# Altium schematic symbol library connectors.SCHLIB: 67 symbols
Pins are listed as number, name and electrical type; pins without a type are passive.

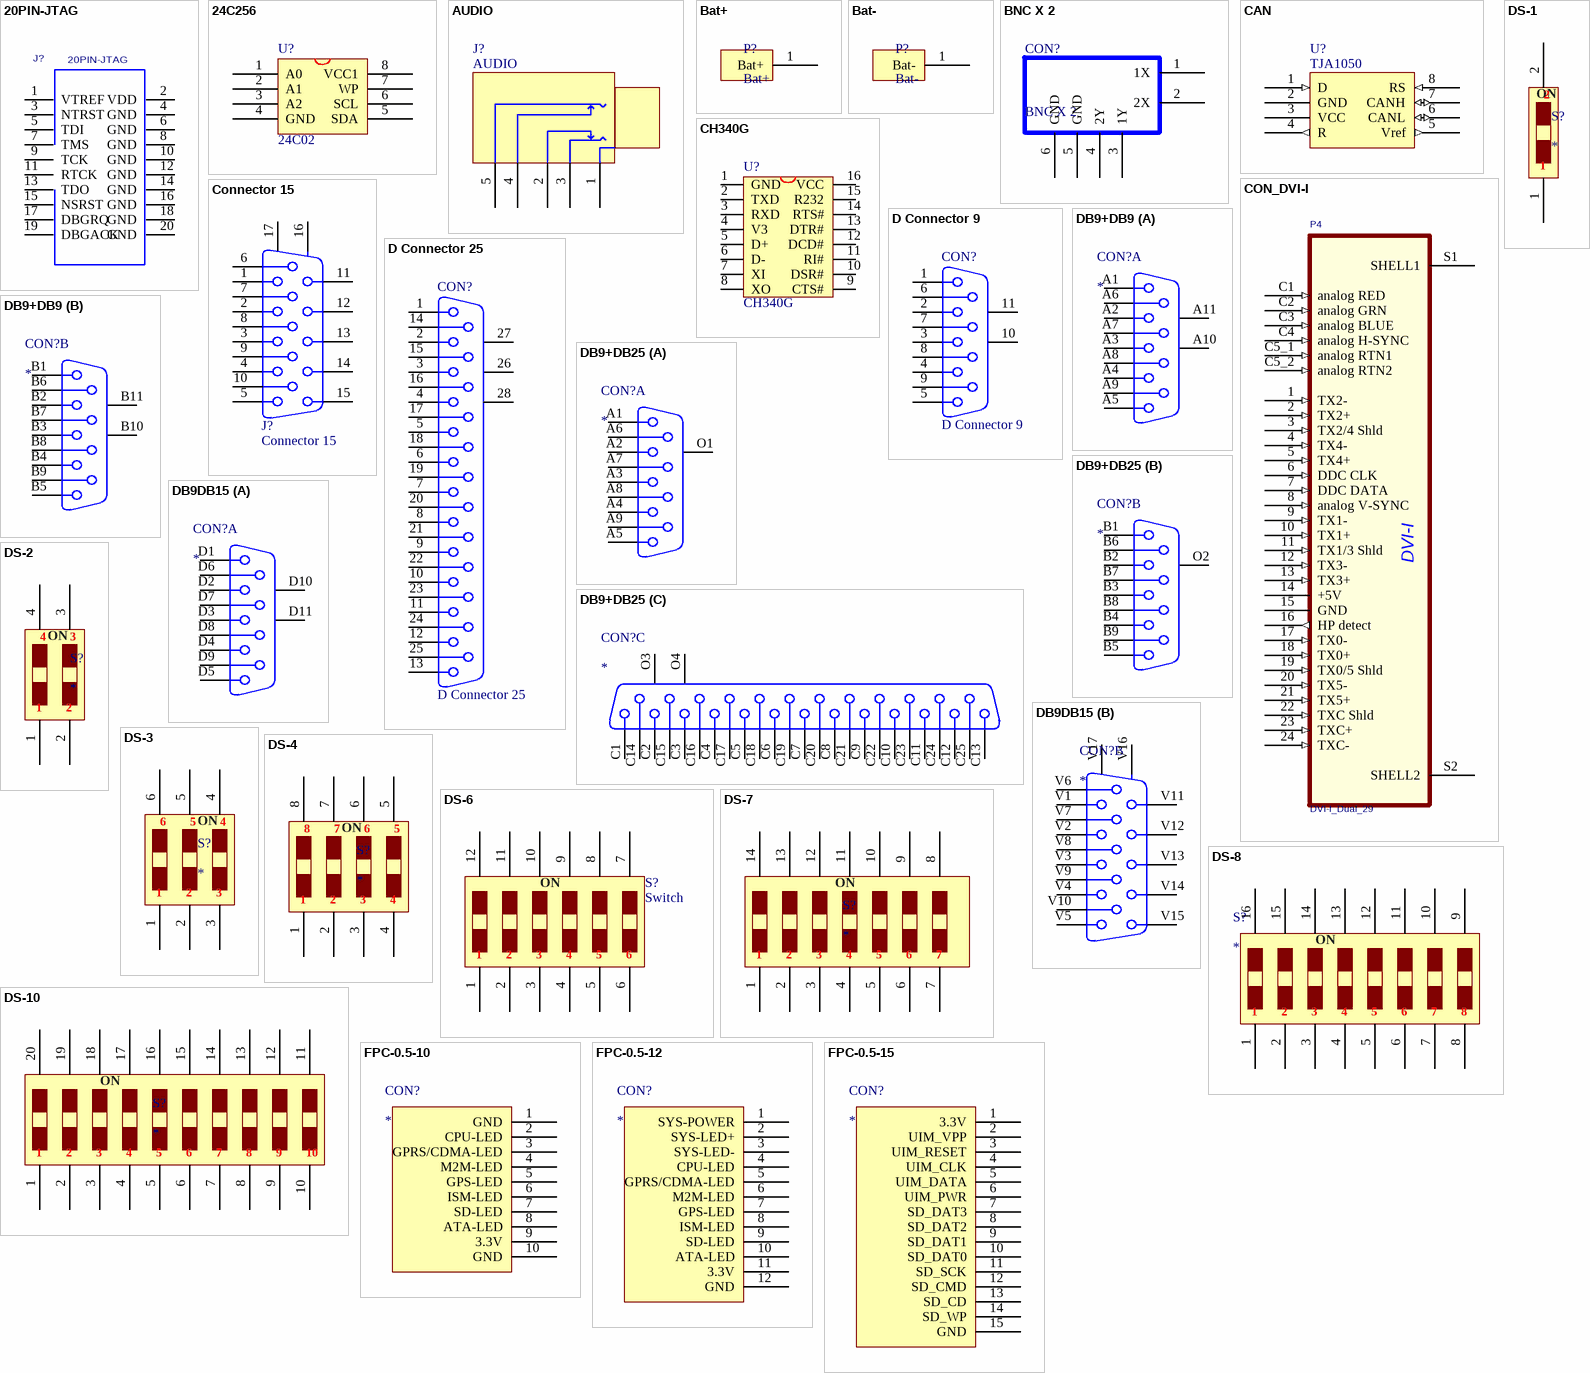
[diagram p0: symbols 20PIN-JTAG to FPC-0.5-15]

## 20PIN-JTAG
designator J?
PCB DECAL: 20PIN-JTAG
footprint 20PIN-JTAG
pins: 1 VTREF, 2 VDD, 3 NTRST, 4 GND, 5 TDI, 6 GND, 7 TMS, 8 GND, 9 TCK, 10 GND, 11 RTCK, 12 GND, 13 TDO, 14 GND, 15 NSRST, 16 GND, 17 DBGRQ, 18 GND, 19 DBGACK, 20 GND

## 24C256
designator U?, comment 24C02
footprint SOP-8 (SOP)
pins: 1 A0, 2 A1, 3 A2, 4 GND, 5 SDA, 6 SCL, 7 WP, 8 VCC1

## AUDIO
designator J?
pins: 1, 2, 3, 4, 5

## Bat+
designator P?
pins: 1 Bat+

## Bat-
designator P?
pins: 1 Bat-

## BNC X 2
designator CON?
BNC Elbow Connector; LatestRevisionDate: 17-Jul-2002; LatestRevisionNote: Re-released for DXP Platform.; Publisher: Altium Limited
pins: 1 1X, 2 2X, 3 1Y, 4 2Y, 5 GND, 6 GND

## CAN
designator U?, comment TJA1050
footprint SOP-8 (SSOP8)
footprint SO8
pins: 1 D (in), 2 GND (power), 3 VCC (power), 4 R (out), 5 Vref (out), 6 CANL (io), 7 CANH (io), 8 RS (in)
2 alternate drawings of the same symbol

## CH340G
designator U?
USB2UART
footprint SOP16M (Small Outline; 16 Leads; Body Width 3.9 mm; Pitch 1.27 mm)
pins: 1 GND, 2 TXD, 3 RXD, 4 V3, 5 D+, 6 D-, 7 XI, 8 XO, 9 CTS#, 10 DSR#, 11 RI#, 12 DCD#, 13 DTR#, 14 RTS#, 15 R232, 16 VCC

## CON_DVI-I
designator P4, comment DVI-I_Dual_29
CON 29 DVI SKT RA SHLD TH -- 390H AU; AGILE_PN: 210-76234; MFG_NAME01: TYCO ELECTRONICS; MFG_PN01: 1-1734148-3; CAD_APPROVED: Yes; ROHS: Yes; HEIGHT: 9.9MM
footprint conn_rt_ra_30
pins: 1 TX2- (in), 2 TX2+ (in), 3 TX2/4 Shld (in), 4 TX4- (in), 5 TX4+ (in), 6 DDC CLK (in), 7 DDC DATA (in), 8 analog V-SYNC (in), 9 TX1- (in), 10 TX1+ (in), 11 TX1/3 Shld (in), 12 TX3- (in), 13 TX3+ (in), 14 +5V (power), 15 GND (power), 16 HP detect (out), 17 TX0- (in), 18 TX0+ (in), 19 TX0/5 Shld (in), 20 TX5- (in), 21 TX5+ (in), 22 TXC Shld (in), 23 TXC+ (in), 24 TXC- (in), C1 analog RED (in), C2 analog GRN (in), C3 analog BLUE (in), C4 analog H-SYNC (in), C5_1 analog RTN1 (in), C5_2 analog RTN2 (in), S1 SHELL1, S2 SHELL2
text: DVI-I

## Connector 15
designator J?
Receptacle Assembly; PackageDocument: B; Positions: 15; Gender: Receptacle Header; Published: 15-Jun-2001; LatestRevisionDate: 17-Jul-2002; LatestRevisionNote: Re-released for DXP Platform.; DatasheetDocument: 24-Nov-1999; PackageReference: 788574; Publisher: Altium Limited; Orientation: Right Angle
footprint DB15/HD
signal-integrity model Connector
pins: 1, 2, 3, 4, 5, 6, 7, 8, 9, 10, 11, 12, 13, 14, 15, 16 MH1, 17 MH2

## D Connector 9
designator CON?
Receptacle Assembly, 9 Position, Right Angle; PackageDocument: O; Positions: 9; Published: 15-Jun-2001; LatestRevisionDate: 17-Jul-2002; LatestRevisionNote: Re-released for DXP Platform.; DatasheetDocument: 1-Sep-1999; PackageReference: 788750; Publisher: Altium Limited; Orientation: Right Angle; Gender: Receptacle
footprint DSUB1.385-2H9 (Connector; D Subminiature; 9 Position; Right Angle; Pitch 1.385 mm)
signal-integrity model Connector
pins: 1, 2, 3, 4, 5, 6, 7, 8, 9, 10 MH1, 11 MH2

## D Connector 25
designator CON?
Receptacle Assembly, 25 Position, Right Angle; PackageDocument: U; Positions: 25; Published: 15-Jun-2001; LatestRevisionDate: 17-Jul-2002; LatestRevisionNote: Re-released for DXP Platform.; DatasheetDocument: 19-Mar-1999; PackageReference: 787202; Publisher: Altium Limited; Orientation: Right Angle; Gender: Receptacle
pins: 1, 2, 3, 4, 5, 6, 7, 8, 9, 10, 11, 12, 13, 14, 15, 16, 17, 18, 19, 20, 21, 22, 23, 24, 25, 26 MH1, 27 MH2, 28 MH1

## DB9+DB9
designator CON?
part A pins: A1 1, A2 2, A3 3, A4 4, A5 5, A6 6, A7 7, A8 8, A9 9, A10 MH1, A11 MH2
part B pins: B1 1, B2 2, B3 3, B4 4, B5 5, B6 6, B7 7, B8 8, B9 9, B10 MH1, B11 MH2

## DB9+DB25
designator CON?
part A pins: A1 1, A2 2, A3 3, A4 4, A5 5, A6 6, A7 7, A8 8, A9 9, O1 MH2
part B pins: B1 1, B2 2, B3 3, B4 4, B5 5, B6 6, B7 7, B8 8, B9 9, O2 MH2
part C pins: C1 1, C2 2, C3 3, C4 4, C5 5, C6 6, C7 7, C8 8, C9 9, C10 10, C11 11, C12 12, C13 13, C14 14, C15 15, C16 16, C17 17, C18 18, C19 19, C20 20, C21 21, C22 22, C23 23, C24 24, C25 25, O3 MH2, O4 MH1

## DB9DB15
designator CON?
part A pins: D1 1, D2 2, D3 3, D4 4, D5 5, D6 6, D7 7, D8 8, D9 9, D10 MH2, D11 MH1
part B pins: V1 1, V2 2, V3 3, V4 4, V5 5, V6 6, V7 7, V8 8, V9 9, V10 10, V11 11, V12 12, V13 13, V14 14, V15 15, V16 MH1, V17 MH2

## DS-1
designator S?
pins: 1, 2
text: ON

## DS-2
designator S?
pins: 1, 2, 3, 4
text: ON

## DS-3
designator S?
pins: 1, 2, 3, 4, 5, 6
text: ON

## DS-4
designator S?
pins: 1, 2, 3, 4, 5, 6, 7, 8
text: ON

## DS-6
designator S?, comment Switch
pins: 1, 2, 3, 4, 5, 6, 7, 8, 9, 10, 11, 12
text: ON

## DS-7
designator S?
pins: 1, 2, 3, 4, 5, 6, 7, 8, 9, 10, 11, 12, 13, 14
text: ON

## DS-8
designator S?
pins: 1, 2, 3, 4, 5, 6, 7, 8, 9, 10, 11, 12, 13, 14, 15, 16
text: ON

## DS-10
designator S?
pins: 1, 2, 3, 4, 5, 6, 7, 8, 9, 10, 11, 12, 13, 14, 15, 16, 17, 18, 19, 20
text: ON

## FPC-0.5-10
designator CON?
pins: 1 GND, 2 CPU-LED, 3 GPRS/CDMA-LED, 4 M2M-LED, 5 GPS-LED, 6 ISM-LED, 7 SD-LED, 8 ATA-LED, 9 3.3V, 10 GND

## FPC-0.5-12
designator CON?
pins: 1 SYS-POWER, 2 SYS-LED+, 3 SYS-LED-, 4 CPU-LED, 5 GPRS/CDMA-LED, 6 M2M-LED, 7 GPS-LED, 8 ISM-LED, 9 SD-LED, 10 ATA-LED, 11 3.3V, 12 GND

## FPC-0.5-15
designator CON?
pins: 1 3.3V, 2 UIM_VPP, 3 UIM_RESET, 4 UIM_CLK, 5 UIM_DATA, 6 UIM_PWR, 7 SD_DAT3, 8 SD_DAT2, 9 SD_DAT1, 10 SD_DAT0, 11 SD_SCK, 12 SD_CMD, 13 SD_CD, 14 SD_WP, 15 GND

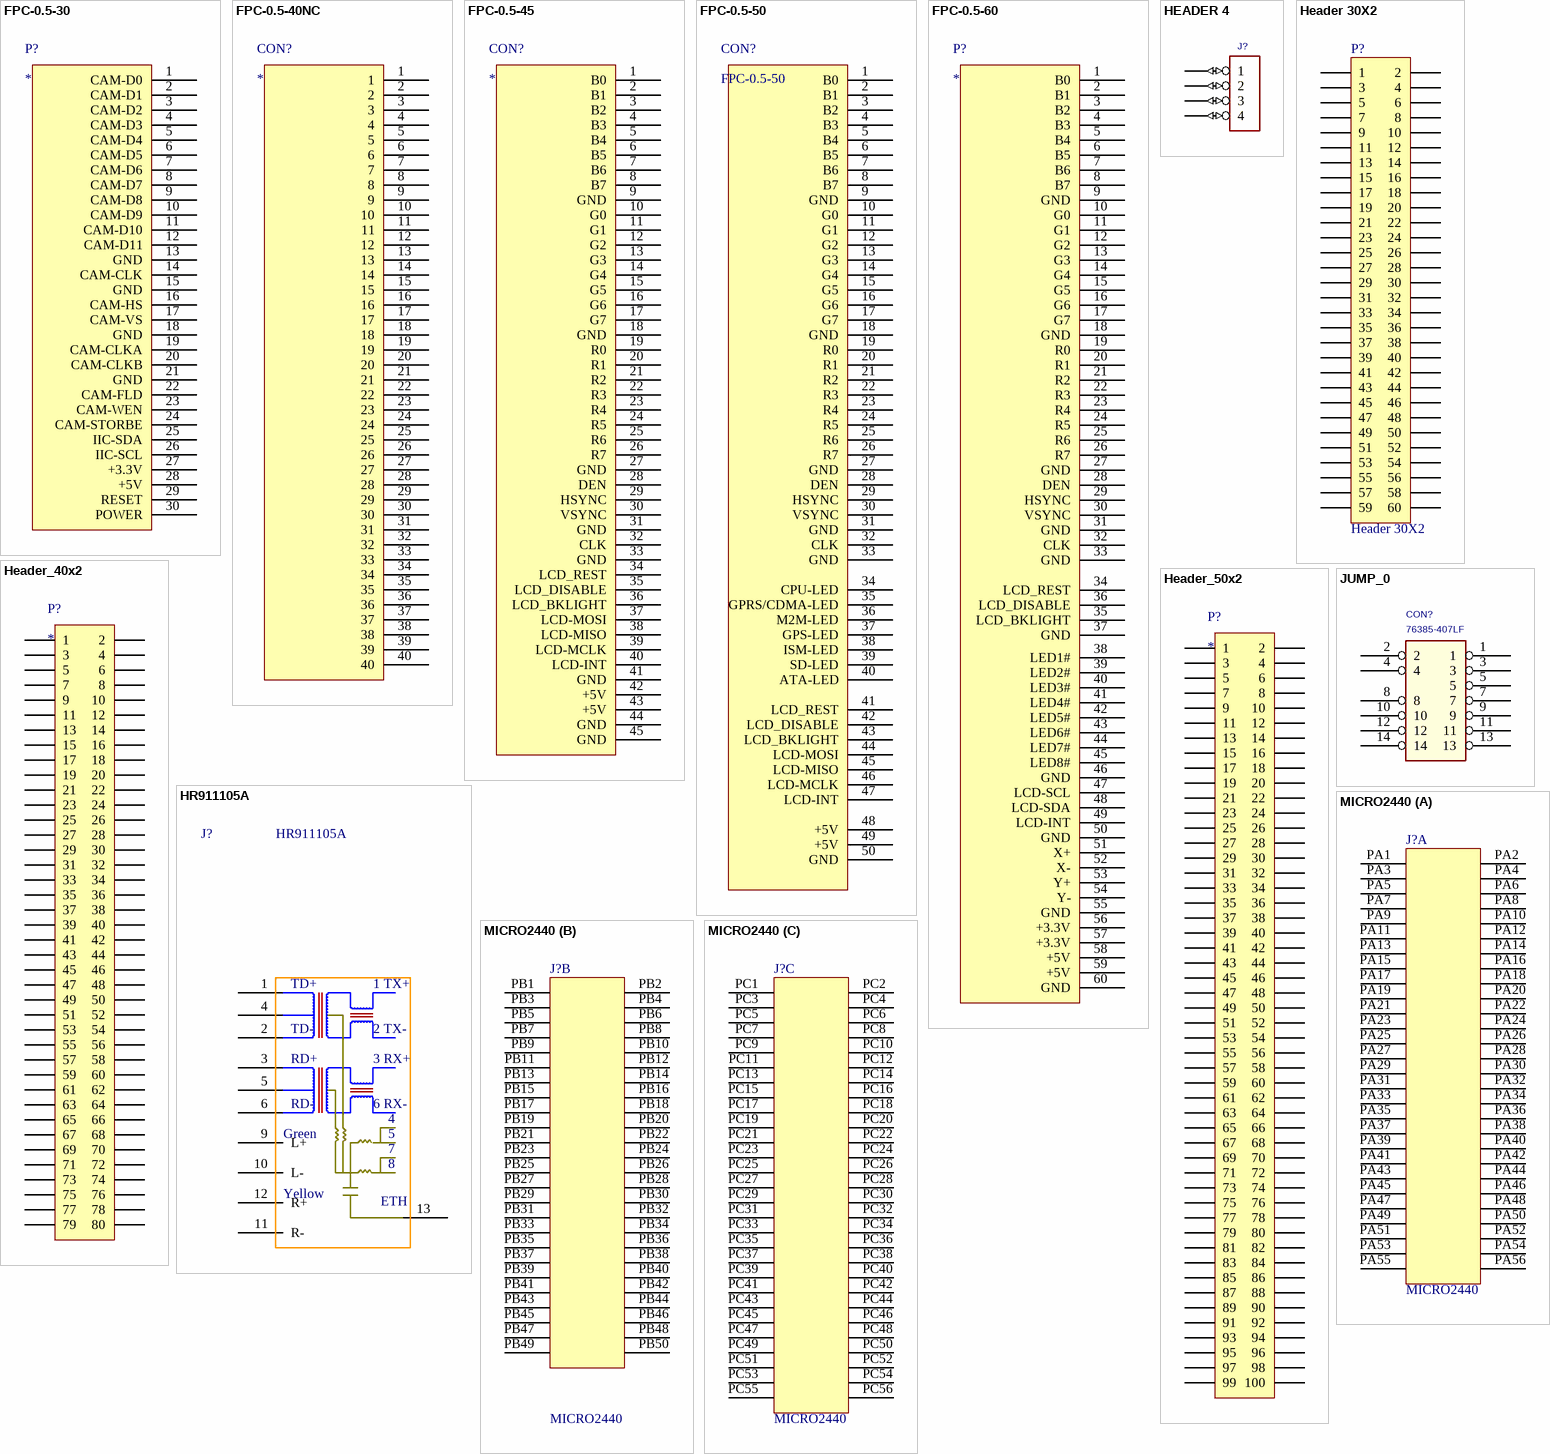
[diagram p1: symbols FPC-0.5-30 to MICRO2440]

## FPC-0.5-30
designator P?
pins: 1 CAM-D0, 2 CAM-D1, 3 CAM-D2, 4 CAM-D3, 5 CAM-D4, 6 CAM-D5, 7 CAM-D6, 8 CAM-D7, 9 CAM-D8, 10 CAM-D9, 11 CAM-D10, 12 CAM-D11, 13 GND, 14 CAM-CLK, 15 GND, 16 CAM-HS, 17 CAM-VS, 18 GND, 19 CAM-CLKA, 20 CAM-CLKB, 21 GND, 22 CAM-FLD, 23 CAM-WEN, 24 CAM-STORBE, 25 IIC-SDA, 26 IIC-SCL, 27 +3.3V, 28 +5V, 29 RESET, 30 POWER

## FPC-0.5-40NC
designator CON?
pins: 1, 2, 3, 4, 5, 6, 7, 8, 9, 10, 11, 12, 13, 14, 15, 16, 17, 18, 19, 20, 21, 22, 23, 24, 25, 26, 27, 28, 29, 30, 31, 32, 33, 34, 35, 36, 37, 38, 39, 40

## FPC-0.5-45
designator CON?
pins: 1 B0, 2 B1, 3 B2, 4 B3, 5 B4, 6 B5, 7 B6, 8 B7, 9 GND, 10 G0, 11 G1, 12 G2, 13 G3, 14 G4, 15 G5, 16 G6, 17 G7, 18 GND, 19 R0, 20 R1, 21 R2, 22 R3, 23 R4, 24 R5, 25 R6, 26 R7, 27 GND, 28 DEN, 29 HSYNC, 30 VSYNC, 31 GND, 32 CLK, 33 GND, 34 LCD_REST, 35 LCD_DISABLE, 36 LCD_BKLIGHT, 37 LCD-MOSI, 38 LCD-MISO, 39 LCD-MCLK, 40 LCD-INT, 41 GND, 42 +5V, 43 +5V, 44 GND, 45 GND

## FPC-0.5-50
designator CON?
pins: 1 B0, 2 B1, 3 B2, 4 B3, 5 B4, 6 B5, 7 B6, 8 B7, 9 GND, 10 G0, 11 G1, 12 G2, 13 G3, 14 G4, 15 G5, 16 G6, 17 G7, 18 GND, 19 R0, 20 R1, 21 R2, 22 R3, 23 R4, 24 R5, 25 R6, 26 R7, 27 GND, 28 DEN, 29 HSYNC, 30 VSYNC, 31 GND, 32 CLK, 33 GND, 34 CPU-LED, 35 GPRS/CDMA-LED, 36 M2M-LED, 37 GPS-LED, 38 ISM-LED, 39 SD-LED, 40 ATA-LED, 41 LCD_REST, 42 LCD_DISABLE, 43 LCD_BKLIGHT, 44 LCD-MOSI, 45 LCD-MISO, 46 LCD-MCLK, 47 LCD-INT, 48 +5V, 49 +5V, 50 GND

## FPC-0.5-60
designator P?
pins: 1 B0, 2 B1, 3 B2, 4 B3, 5 B4, 6 B5, 7 B6, 8 B7, 9 GND, 10 G0, 11 G1, 12 G2, 13 G3, 14 G4, 15 G5, 16 G6, 17 G7, 18 GND, 19 R0, 20 R1, 21 R2, 22 R3, 23 R4, 24 R5, 25 R6, 26 R7, 27 GND, 28 DEN, 29 HSYNC, 30 VSYNC, 31 GND, 32 CLK, 33 GND, 34 LCD_REST, 35 LCD_BKLIGHT, 36 LCD_DISABLE, 37 GND, 38 LED1#, 39 LED2#, 40 LED3#, 41 LED4#, 42 LED5#, 43 LED6#, 44 LED7#, 45 LED8#, 46 GND, 47 LCD-SCL, 48 LCD-SDA, 49 LCD-INT, 50 GND, 51 X+, 52 X-, 53 Y+, 54 Y-, 55 GND, 56 +3.3V, 57 +3.3V, 58 +5V, 59 +5V, 60 GND

## HEADER 4
designator J?, comment HEADER_4  (value not drawn)
pins: 1 (io), 2 (io), 3 (io), 4 (io)

## Header 30X2
designator P?
Header, 30-Pin, Dual row; LatestRevisionDate: 17-Jul-2002; LatestRevisionNote: Re-released for DXP Platform.; Publisher: Altium Limited
footprint HDR2X30 (Connector; Header; 30x2 Position)
signal-integrity model Connector
pins: 1, 2, 3, 4, 5, 6, 7, 8, 9, 10, 11, 12, 13, 14, 15, 16, 17, 18, 19, 20, 21, 22, 23, 24, 25, 26, 27, 28, 29, 30, 31, 32, 33, 34, 35, 36, 37, 38, 39, 40, 41, 42, 43, 44, 45, 46, 47, 48, 49, 50, 51, 52, 53, 54, 55, 56, 57, 58, 59, 60

## Header_40x2
designator P?
pins: 1, 2, 3, 4, 5, 6, 7, 8, 9, 10, 11, 12, 13, 14, 15, 16, 17, 18, 19, 20, 21, 22, 23, 24, 25, 26, 27, 28, 29, 30, 31, 32, 33, 34, 35, 36, 37, 38, 39, 40, 41, 42, 43, 44, 45, 46, 47, 48, 49, 50, 51, 52, 53, 54, 55, 56, 57, 58, 59, 60, 61, 62, 63, 64, 65, 66, 67, 68, 69, 70, 71, 72, 73, 74, 75, 76, 77, 78, 79, 80

## Header_50x2
designator P?
pins: 1, 2, 3, 4, 5, 6, 7, 8, 9, 10, 11, 12, 13, 14, 15, 16, 17, 18, 19, 20, 21, 22, 23, 24, 25, 26, 27, 28, 29, 30, 31, 32, 33, 34, 35, 36, 37, 38, 39, 40, 41, 42, 43, 44, 45, 46, 47, 48, 49, 50, 51, 52, 53, 54, 55, 56, 57, 58, 59, 60, 61, 62, 63, 64, 65, 66, 67, 68, 69, 70, 71, 72, 73, 74, 75, 76, 77, 78, 79, 80, 81, 82, 83, 84, 85, 86, 87, 88, 89, 90, 91, 92, 93, 94, 95, 96, 97, 98, 99, 100

## HR911105A
designator J?
pins: 1, 2, 3, 4, 5, 6, 9 L+, 10 L-, 11 R-, 12 R+, 13
text: TD+; 1 TX+; TD-; 2 TX-; RD+; 3 RX+; RD-; 6 RX-; Green; 7; 8; Yellow; ETH

## JUMP_0
designator CON?, comment 76385-407LF
CLASS: IO; PN: 5-825440-0; DES: Header 2x7pts; PUR: SUB; MAN: AMP; REF DIS-V: 173-2708; DIS-V: RS; TN: 224-0184-000
pins: 1, 2, 3, 4, 5, 7, 8, 9, 10, 11, 12, 13, 14

## MICRO2440
designator J?
footprint MICRO2440
part A pins: PA1, PA2, PA3, PA4, PA5, PA6, PA7, PA8, PA9, PA10, PA11, PA12, PA13, PA14, PA15, PA16, PA17, PA18, PA19, PA20, PA21, PA22, PA23, PA24, PA25, PA26, PA27, PA28, PA29, PA30, PA31, PA32, PA33, PA34, PA35, PA36, PA37, PA38, PA39, PA40, PA41, PA42, PA43, PA44, PA45, PA46, PA47, PA48, PA49, PA50, PA51, PA52, PA53, PA54, PA55, PA56
part B pins: PB1, PB2, PB3, PB4, PB5, PB6, PB7, PB8, PB9, PB10, PB11, PB12, PB13, PB14, PB15, PB16, PB17, PB18, PB19, PB20, PB21, PB22, PB23, PB24, PB25, PB26, PB27, PB28, PB29, PB30, PB31, PB32, PB33, PB34, PB35, PB36, PB37, PB38, PB39, PB40, PB41, PB42, PB43, PB44, PB45, PB46, PB47, PB48, PB49, PB50
part C pins: PC1, PC2, PC3, PC4, PC5, PC6, PC7, PC8, PC9, PC10, PC11, PC12, PC13, PC14, PC15, PC16, PC17, PC18, PC19, PC20, PC21, PC22, PC23, PC24, PC25, PC26, PC27, PC28, PC29, PC30, PC31, PC32, PC33, PC34, PC35, PC36, PC37, PC38, PC39, PC40, PC41, PC42, PC43, PC44, PC45, PC46, PC47, PC48, PC49, PC50, PC51, PC52, PC53, PC54, PC55, PC56

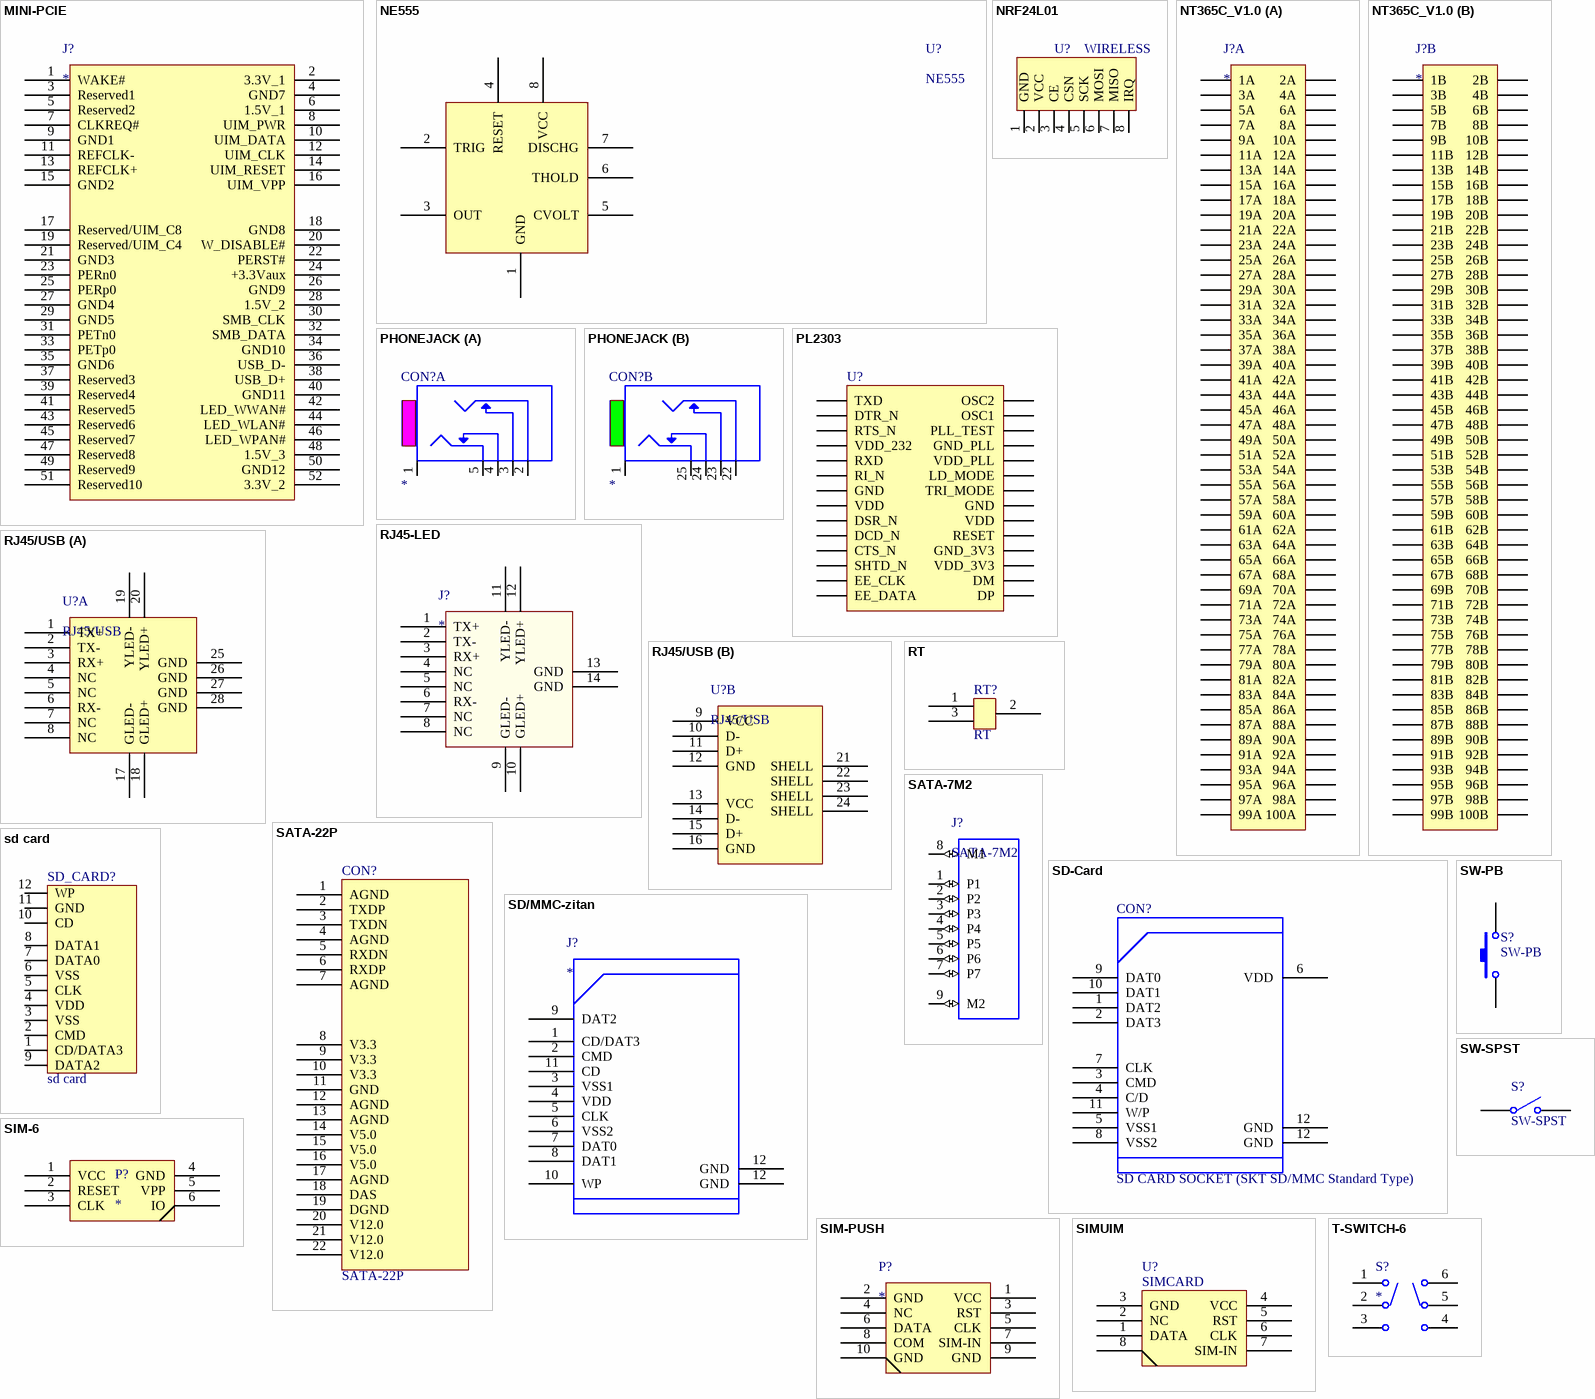
[diagram p2: symbols MINI-PCIE to T-SWITCH-6]

## MINI-PCIE
designator J?
pins: 1 WAKE#, 2 3.3V_1, 3 Reserved1, 4 GND7, 5 Reserved2, 6 1.5V_1, 7 CLKREQ#, 8 UIM_PWR, 9 GND1, 10 UIM_DATA, 11 REFCLK-, 12 UIM_CLK, 13 REFCLK+, 14 UIM_RESET, 15 GND2, 16 UIM_VPP, 17 Reserved/UIM_C8, 18 GND8, 19 Reserved/UIM_C4, 20 W_DISABLE#, 21 GND3, 22 PERST#, 23 PERn0, 24 +3.3Vaux, 25 PERp0, 26 GND9, 27 GND4, 28 1.5V_2, 29 GND5, 30 SMB_CLK, 31 PETn0, 32 SMB_DATA, 33 PETp0, 34 GND10, 35 GND6, 36 USB_D-, 37 Reserved3, 38 USB_D+, 39 Reserved4, 40 GND11, 41 Reserved5, 42 LED_WWAN#, 43 Reserved6, 44 LED_WLAN#, 45 Reserved7, 46 LED_WPAN#, 47 Reserved8, 48 1.5V_3, 49 Reserved9, 50 GND12, 51 Reserved10, 52 3.3V_2

## NE555
designator U?
footprint SOP8 (Small Outline; 8 Leads; Body Width 3.9 mm; Pitch 1.27 mm)
pins: 1 GND, 2 TRIG, 3 OUT, 4 RESET, 5 CVOLT, 6 THOLD, 7 DISCHG, 8 VCC

## NRF24L01
designator U?, comment WIRELESS
footprint NRF24L01
pins: 1 GND, 2 VCC, 3 CE, 4 CSN, 5 SCK, 6 MOSI, 7 MISO, 8 IRQ

## NT365C_V1.0
designator J?
part A pins: 1A, 2A, 3A, 4A, 5A, 6A, 7A, 8A, 9A, 10A, 11A, 12A, 13A, 14A, 15A, 16A, 17A, 18A, 19A, 20A, 21A, 22A, 23A, 24A, 25A, 26A, 27A, 28A, 29A, 30A, 31A, 32A, 33A, 34A, 35A, 36A, 37A, 38A, 39A, 40A, 41A, 42A, 43A, 44A, 45A, 46A, 47A, 48A, 49A, 50A, 51A, 52A, 53A, 54A, 55A, 56A, 57A, 58A, 59A, 60A, 61A, 62A, 63A, 64A, 65A, 66A, 67A, 68A, 69A, 70A, 71A, 72A, 73A, 74A, 75A, 76A, 77A, 78A, 79A, 80A, 81A, 82A, 83A, 84A, 85A, 86A, 87A, 88A, 89A, 90A, 91A, 92A, 93A, 94A, 95A, 96A, 97A, 98A, 99A, 100A
part B pins: 1B, 2B, 3B, 4B, 5B, 6B, 7B, 8B, 9B, 10B, 11B, 12B, 13B, 14B, 15B, 16B, 17B, 18B, 19B, 20B, 21B, 22B, 23B, 24B, 25B, 26B, 27B, 28B, 29B, 30B, 31B, 32B, 33B, 34B, 35B, 36B, 37B, 38B, 39B, 40B, 41B, 42B, 43B, 44B, 45B, 46B, 47B, 48B, 49B, 50B, 51B, 52B, 53B, 54B, 55B, 56B, 57B, 58B, 59B, 60B, 61B, 62B, 63B, 64B, 65B, 66B, 67B, 68B, 69B, 70B, 71B, 72B, 73B, 74B, 75B, 76B, 77B, 78B, 79B, 80B, 81B, 82B, 83B, 84B, 85B, 86B, 87B, 88B, 89B, 90B, 91B, 92B, 93B, 94B, 95B, 96B, 97B, 98B, 99B, 100B

## PHONEJACK
designator CON?
Right: 100; Bottom: 50
part A pins: 1 GND, 2 Right, 3 Left, 4 Left, 5 Left
part B pins: 1 GND, 22 Right, 23 Left, 24 Left, 25 Left

## PL2303
designator U?  (value not drawn)
Header, 14-Pin, Dual row; LatestRevisionDate: 17-Jul-2002; LatestRevisionNote: Re-released for DXP Platform.; Publisher: Altium Limited
footprint SOP14
signal-integrity model Connector
pins: 1 TXD, 2 DTR_N, 3 RTS_N, 4 VDD_232, 5 RXD, 6 RI_N, 7 GND, 8 VDD, 9 DSR_N, 10 DCD_N, 11 CTS_N, 12 SHTD_N, 13 EE_CLK, 14 EE_DATA, 15 DP, 16 DM, 17 VDD_3V3, 18 GND_3V3, 19 RESET, 20 VDD, 21 GND, 22 TRI_MODE, 23 LD_MODE, 24 VDD_PLL, 25 GND_PLL, 26 PLL_TEST, 27 OSC1, 28 OSC2

## RJ45-LED
designator J?
pins: 1 TX+, 2 TX-, 3 RX+, 4 NC, 5 NC, 6 RX-, 7 NC, 8 NC, 9 GLED-, 10 GLED+, 11 YLED-, 12 YLED+, 13 GND, 14 GND

## RJ45/USB
designator U?
footprint RJ45-USB
part A pins: 1 TX+, 2 TX-, 3 RX+, 4 NC, 5 NC, 6 RX-, 7 NC, 8 NC, 17 GLED-, 18 GLED+, 19 YLED-, 20 YLED+, 25 GND, 26 GND, 27 GND, 28 GND
part B pins: 9 VCC, 10 D-, 11 D+, 12 GND, 13 VCC, 14 D-, 15 D+, 16 GND, 21 SHELL, 22 SHELL, 23 SHELL, 24 SHELL

## RT
designator RT?
pins: 1, 2, 3

## SATA-7M2
designator J?
pins: 1 P1 (io), 2 P2 (io), 3 P3 (io), 4 P4 (io), 5 P5 (io), 6 P6 (io), 7 P7 (io), 8 M1 (io), 9 M2 (io)

## SATA-22P
designator CON?
pins: 1 AGND, 2 TXDP, 3 TXDN, 4 AGND, 5 RXDN, 6 RXDP, 7 AGND, 8 V3.3, 9 V3.3, 10 V3.3, 11 GND, 12 AGND, 13 AGND, 14 V5.0, 15 V5.0, 16 V5.0, 17 AGND, 18 DAS, 19 DGND, 20 V12.0, 21 V12.0, 22 V12.0

## sd card
designator SD_CARD?
footprint SDCARD_S (SDCARD_SMALL)
footprint SDCARD_L
pins: 1 CD/DATA3, 2 CMD, 3 VSS, 4 VDD, 5 CLK, 6 VSS, 7 DATA0, 8 DATA1, 9 DATA2, 10 CD, 11 GND, 12 WP

## SD-Card
designator CON?, comment SD CARD SOCKET (SKT SD/MMC Standard Type)
pins: 1 DAT2, 2 DAT3, 3 CMD, 4 C/D, 5 VSS1, 6 VDD, 7 CLK, 8 VSS2, 9 DAT0, 10 DAT1, 11 W/P, 12 GND (power), 12 GND (power)

## SD/MMC-zitan
designator J?
pins: 1 CD/DAT3, 2 CMD, 3 VSS1, 4 VDD, 5 CLK, 6 VSS2, 7 DAT0, 8 DAT1, 9 DAT2, 10 WP, 11 CD, 12 GND (power), 12 GND (power)

## SIM-6
designator P?
pins: 1 VCC, 2 RESET, 3 CLK, 4 GND, 5 VPP, 6 IO

## SIM-PUSH
designator P?
pins: 1 VCC, 2 GND, 3 RST, 4 NC, 5 CLK, 6 DATA, 7 SIM-IN, 8 COM, 9 GND, 10 GND

## SIMUIM
designator U?, comment SIMCARD
footprint SIMUIM-8P
pins: 1 DATA, 2 NC, 3 GND, 4 VCC, 5 RST, 6 CLK, 7 SIM-IN, 8

## SW-PB
designator S?
Switch; Published: 24-Mar-1999; LatestRevisionDate: 17-Jul-2002; LatestRevisionNote: Re-released for DXP Platform.; PackageReference: SPST-2; Publisher: Altium Limited
footprint SPST-2 (Switch; 2 Leads)
pins: 1, 2

## SW-SPST
designator S?
Single-Pole, Single-Throw Switch; Published: 24-Mar-1999; LatestRevisionDate: 17-Jul-2002; LatestRevisionNote: Re-released for DXP Platform.; PackageReference: SPST-2; Publisher: Altium Limited; PackageDescription: Switch; 2 Leads
footprint SPST-2 (Switch; 2 Leads)
pins: 1 COMMON, 2 NO

## T-SWITCH-6
designator S?
pins: 1, 2, 3, 4, 5, 6

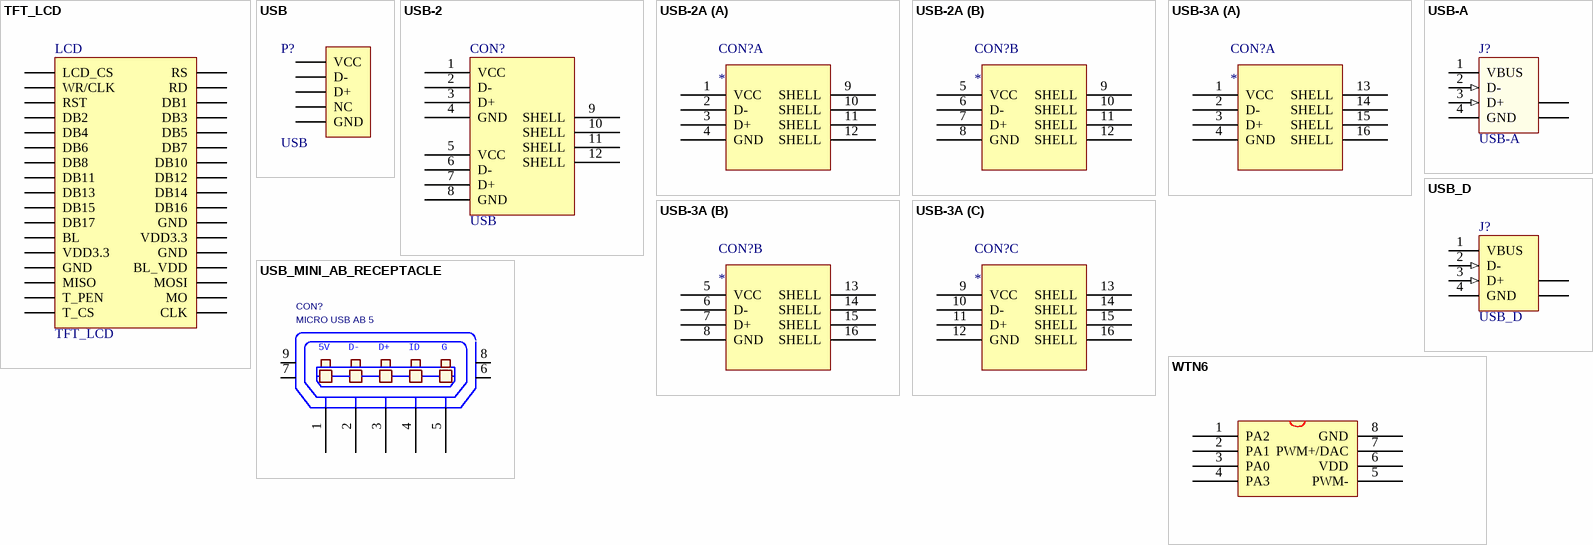
[diagram p3: symbols TFT_LCD to WTN6]

## TFT_LCD
designator LCD
LatestRevisionDate: 17-Jul-2002; LatestRevisionNote: Re-released for DXP Platform.; Publisher: Altium Limited
footprint HDR2X17H (Connector; Header; 17x2 Position; Right Angle)
signal-integrity model Connector
pins: 1 LCD_CS, 2 RS, 3 WR/CLK, 4 RD, 5 RST, 6 DB1, 7 DB2, 8 DB3, 9 DB4, 10 DB5, 11 DB6, 12 DB7, 13 DB8, 14 DB10, 15 DB11, 16 DB12, 17 DB13, 18 DB14, 19 DB15, 20 DB16, 21 DB17, 22 GND, 23 BL, 24 VDD3.3, 25 VDD3.3, 26 GND, 27 GND, 28 BL_VDD, 29 MISO, 30 MOSI, 31 T_PEN, 32 MO, 33 T_CS, 34 CLK

## USB
designator P?
LatestRevisionDate: 17-Jul-2002; LatestRevisionNote: Re-released for DXP Platform.; Publisher: Altium Limited
footprint USBfoot
signal-integrity model Connector
pins: 1 VCC, 2 D-, 3 D+, 4 NC, 5 GND

## USB-2
designator CON?, comment USB
pins: 1 VCC, 2 D-, 3 D+, 4 GND, 5 VCC, 6 D-, 7 D+, 8 GND, 9 SHELL, 10 SHELL, 11 SHELL, 12 SHELL

## USB-2A
designator CON?
part A pins: 1 VCC, 2 D-, 3 D+, 4 GND, 9 SHELL, 10 SHELL, 11 SHELL, 12 SHELL
part B pins: 5 VCC, 6 D-, 7 D+, 8 GND, 9 SHELL, 10 SHELL, 11 SHELL, 12 SHELL

## USB-3A
designator CON?
part A pins: 1 VCC, 2 D-, 3 D+, 4 GND, 13 SHELL, 14 SHELL, 15 SHELL, 16 SHELL
part B pins: 5 VCC, 6 D-, 7 D+, 8 GND, 13 SHELL, 14 SHELL, 15 SHELL, 16 SHELL
part C pins: 9 VCC, 10 D-, 11 D+, 12 GND, 13 SHELL, 14 SHELL, 15 SHELL, 16 SHELL

## USB-A
designator J?
USB 1.1, Right Angle, SMT, A Type, Receptacle, 4 Position, White; ContactMaterial: Copper Alloy; ContactPlating: Gold over Palladium Nickel; PCB_Layout: Complies with manufacturer's recommendation.; DrillSize: Corresponds to nominal value.; PanelGround: Without; Published: 15-Jul-2004; DatasheetDocument: 11-Apr-2003; PackageDocument: 11-Apr-2003; PackageReference: 353576; Publisher: Altium Limited; HousingMaterial: Thermoplastic; ComponentLink1Description: Manufacturer Link; ComponentLink1URL: http://www.tycoelectronics.com/; ComponentLink2Description: Packaging Specification; ComponentLink2URL: http://ecommas.tycoelectronics.com/commerce/DocumentDelivery/DDEController?Action=showdoc&DocId=Customer+Drawing%7F353576%7FD%7Ftif%7FJapanese%7FJPN_CD_353576_D.tif
pins: 1 VBUS (power) "Power", 2 D- (in) "-DATA", 3 D+ (in) "+DATA", 4 GND (power) "Ground", 5 SHLD "Shield", 6 SHLD "Shield"

## USB_D
designator J?
USB 1.1, Right Angle, Thru-Hole, B Type, Receptacle, 4 Position, Natural; ContactMaterial: Copper Alloy; ContactPlating: Gold Flash over Palladium Nickel or Gold (30) over Nickel; TerminationLength: 3.00mm [0.118in.]; PCB_Layout: Complies with manufacturer's recommendation.; DrillSize: Corresponds to nominal value.; PanelGround: Without; Published: 15-Jul-2004; DatasheetDocument: 11-Jan-2004; PackageDocument: 11-Jan-2004; PackageReference: 787780; Publisher: Altium Limited; HousingMaterial: Thermoplastic; ComponentLink1Description: Manufacturer Link; ComponentLink1URL: http://www.tycoelectronics.com/; ComponentLink2Description: Packaging Specification; ComponentLink2URL: http://ecommas.tycoelectronics.com/commerce/DocumentDelivery/DDEController?Action=showdoc&DocId=Customer+Drawing%7F787780%7FF%7Ftif%7FEnglish%7FENG_CD_787780_F.tif
footprint 787780 (Connector; USB1.1, Type B, Thru-Hole; 4 Position; Right Angle)
signal-integrity model USB1.1
pins: 1 VBUS (power) "Power", 2 D- (in) "-DATA", 3 D+ (in) "+DATA", 4 GND (power) "Ground", 5 SHLD "Shield", 6 SHLD "Shield"

## USB_MINI_AB_RECEPTACLE
designator CON?, comment MICRO USB AB 5
CON 1X5 USB_MINI_AB_RECEPTACLE RA SMT 0.65MM SP 105H AU; AGILE_PN: 211-78722; MFG_NAME01: Molex; MFG_PN01: 47589-0001; CAD_APPROVED: Yes; ROHS: Yes; HEIGHT: 2.65MM
pins: 1 P1, 2 P2, 3 P3, 4 P4, 5 P5, 6 SHLD4, 7 SHLD3, 8 SHLD2, 9 SHLD1
text: 5V; D-; D+; ID; G

## WTN6
designator U?
footprint SOP-8 (SOP)
pins: 1 PA2, 2 PA1, 3 PA0, 4 PA3, 5 PWM-, 6 VDD, 7 PWM+/DAC, 8 GND